# Altium schematic symbol library LTC3779EFE.Schlib: 1 symbol
Pins are listed as number, name and electrical type; pins without a type are passive.

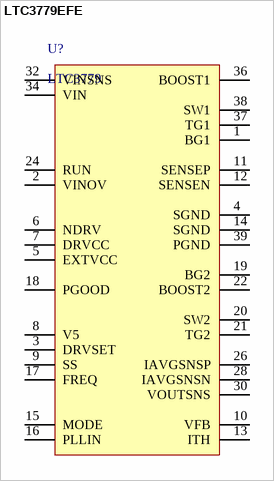
[diagram p0: symbol LTC3779EFE]

## LTC3779EFE
designator U?, comment LTC3779
IC REG CTRLR BUCK-BOOST 38-TSSOP
pins: 1 BG1, 2 VINOV, 3 DRVSET, 4 SGND, 5 EXTVCC, 6 NDRV, 7 DRVCC, 8 V5, 9 SS, 10 VFB, 11 SENSEP, 12 SENSEN, 13 ITH, 14 SGND, 15 MODE, 16 PLLIN, 17 FREQ, 18 PGOOD, 19 BG2, 20 SW2, 21 TG2, 22 BOOST2, 24 RUN, 26 IAVGSNSP, 28 IAVGSNSN, 30 VOUTSNS, 32 VINSNS, 34 VIN, 36 BOOST1, 37 TG1, 38 SW1, 39 PGND